# Altium schematic symbol library SparkFun-LED.SCHLIB: 66 symbols
Pins are listed as number, name and electrical type; pins without a type are passive.

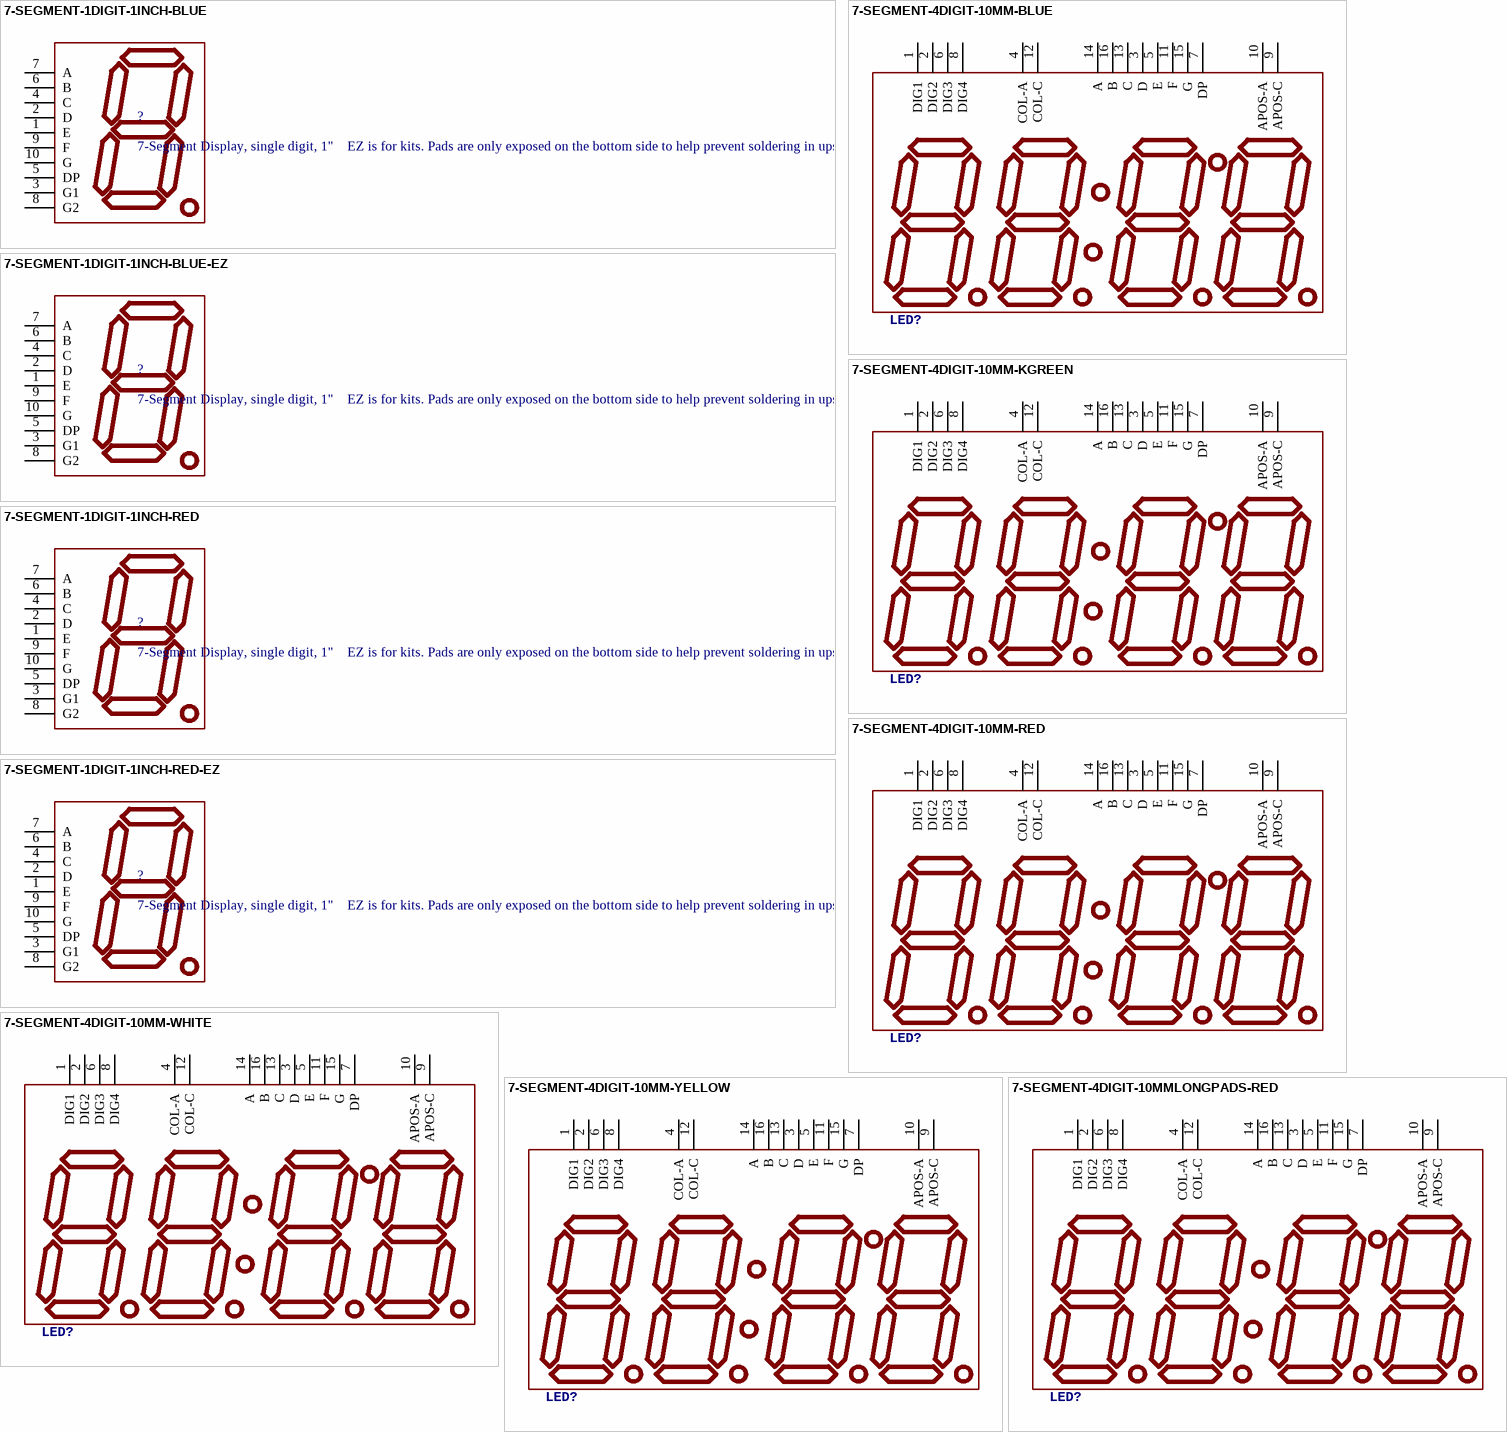
[diagram p0: symbols 7-SEGMENT-1DIGIT-1INCH-BLUE to 7-SEGMENT-4DIGIT-10MMLONGPADS-RED]

## 7-SEGMENT-1DIGIT-1INCH-BLUE
designator ?, comment 7-Segment Display, single digit, 1"    EZ is for kits. Pads are only exposed on the bottom side to help prevent soldering in upside down.    Datasheet (Red) Datasheet (Blue) SparkFun Products  7-Segment Display - LED (Red) (COM-08546)  7-Segment Display - LED (Blue) (COM-09191)
PROD_ID: COMP-09495
footprint 7-SEGMENT-1"PTH
pins: 1 E, 2 D, 3 G1, 4 C, 5 DP, 6 B, 7 A, 8 G2, 9 F, 10 G

## 7-SEGMENT-1DIGIT-1INCH-BLUE-EZ
designator ?, comment 7-Segment Display, single digit, 1"    EZ is for kits. Pads are only exposed on the bottom side to help prevent soldering in upside down.    Datasheet (Red) Datasheet (Blue) SparkFun Products  7-Segment Display - LED (Red) (COM-08546)  7-Segment Display - LED (Blue) (COM-09191)
PROD_ID: COMP-09495
footprint 7-SEGMENT-1"PTH-EZ
pins: 1 E, 2 D, 3 G1, 4 C, 5 DP, 6 B, 7 A, 8 G2, 9 F, 10 G

## 7-SEGMENT-1DIGIT-1INCH-RED
designator ?, comment 7-Segment Display, single digit, 1"    EZ is for kits. Pads are only exposed on the bottom side to help prevent soldering in upside down.    Datasheet (Red) Datasheet (Blue) SparkFun Products  7-Segment Display - LED (Red) (COM-08546)  7-Segment Display - LED (Blue) (COM-09191)
PROD_ID: COMP-08615
footprint 7-SEGMENT-1"PTH
pins: 1 E, 2 D, 3 G1, 4 C, 5 DP, 6 B, 7 A, 8 G2, 9 F, 10 G

## 7-SEGMENT-1DIGIT-1INCH-RED-EZ
designator ?, comment 7-Segment Display, single digit, 1"    EZ is for kits. Pads are only exposed on the bottom side to help prevent soldering in upside down.    Datasheet (Red) Datasheet (Blue) SparkFun Products  7-Segment Display - LED (Red) (COM-08546)  7-Segment Display - LED (Blue) (COM-09191)
PROD_ID: COMP-08615
footprint 7-SEGMENT-1"PTH-EZ
pins: 1 E, 2 D, 3 G1, 4 C, 5 DP, 6 B, 7 A, 8 G2, 9 F, 10 G

## 7-SEGMENT-4DIGIT-10MM-BLUE
designator LED?, comment 4 Digit 7 Segment Display    This is a part for the 4-Digit 7-segment LEDs from Young Sun.  Different from the Digikey LEDs, all 16 pins are used.  The LONGPADS Variant is used for a test jig, but you may like it because there is more pad to solder to. If you are concerned about routing space, the standard works just fine though. Datasheets:  Red  Yellow  Kelly Green  Blue  White     SparkFun Products  Raw Components  7-Segment Display - 4-Digit (Red) (COM-09483)  7-Segment Display - 4-Digit (Yellow) (COM-09480)  7-Segment Display - 4-Digit (Kelly Green) (COM-09482)  7-Segment Display - 4-Digit (Blue) (COM-09481)  7-Segment Display - 4-Digit (White) ( COM-10931)  Serial Controlled  SparkFun 7-Segment Serial Display - Red (COM-11441)  SparkFun 7-Segment Serial Display - Yellow (COM-11443)  SparkFun 7-Segment Serial Display - Kelly Green (COM-11440)  SparkFun 7-Segment Serial Display - Blue (COM-11442)  SparkFun 7-Segment Serial Display - White (COM-11629)  Other  SparkFun BigTime Watch Kit (KIT-11734)
PROD_ID: COMP-09664
footprint 7-SEGMENT-4DIGIT-YOUNGSUN
pins: 1 DIG1, 2 DIG2, 3 D, 4 COL-A, 5 E, 6 DIG3, 7 DP, 8 DIG4, 9 APOS-C, 10 APOS-A, 11 F, 12 COL-C, 13 C, 14 A, 15 G, 16 B

## 7-SEGMENT-4DIGIT-10MM-KGREEN
designator LED?, comment 4 Digit 7 Segment Display    This is a part for the 4-Digit 7-segment LEDs from Young Sun.  Different from the Digikey LEDs, all 16 pins are used.  The LONGPADS Variant is used for a test jig, but you may like it because there is more pad to solder to. If you are concerned about routing space, the standard works just fine though. Datasheets:  Red  Yellow  Kelly Green  Blue  White     SparkFun Products  Raw Components  7-Segment Display - 4-Digit (Red) (COM-09483)  7-Segment Display - 4-Digit (Yellow) (COM-09480)  7-Segment Display - 4-Digit (Kelly Green) (COM-09482)  7-Segment Display - 4-Digit (Blue) (COM-09481)  7-Segment Display - 4-Digit (White) ( COM-10931)  Serial Controlled  SparkFun 7-Segment Serial Display - Red (COM-11441)  SparkFun 7-Segment Serial Display - Yellow (COM-11443)  SparkFun 7-Segment Serial Display - Kelly Green (COM-11440)  SparkFun 7-Segment Serial Display - Blue (COM-11442)  SparkFun 7-Segment Serial Display - White (COM-11629)  Other  SparkFun BigTime Watch Kit (KIT-11734)
PROD_ID: COMP-09665
footprint 7-SEGMENT-4DIGIT-YOUNGSUN
pins: 1 DIG1, 2 DIG2, 3 D, 4 COL-A, 5 E, 6 DIG3, 7 DP, 8 DIG4, 9 APOS-C, 10 APOS-A, 11 F, 12 COL-C, 13 C, 14 A, 15 G, 16 B

## 7-SEGMENT-4DIGIT-10MM-RED
designator LED?, comment 4 Digit 7 Segment Display    This is a part for the 4-Digit 7-segment LEDs from Young Sun.  Different from the Digikey LEDs, all 16 pins are used.  The LONGPADS Variant is used for a test jig, but you may like it because there is more pad to solder to. If you are concerned about routing space, the standard works just fine though. Datasheets:  Red  Yellow  Kelly Green  Blue  White     SparkFun Products  Raw Components  7-Segment Display - 4-Digit (Red) (COM-09483)  7-Segment Display - 4-Digit (Yellow) (COM-09480)  7-Segment Display - 4-Digit (Kelly Green) (COM-09482)  7-Segment Display - 4-Digit (Blue) (COM-09481)  7-Segment Display - 4-Digit (White) ( COM-10931)  Serial Controlled  SparkFun 7-Segment Serial Display - Red (COM-11441)  SparkFun 7-Segment Serial Display - Yellow (COM-11443)  SparkFun 7-Segment Serial Display - Kelly Green (COM-11440)  SparkFun 7-Segment Serial Display - Blue (COM-11442)  SparkFun 7-Segment Serial Display - White (COM-11629)  Other  SparkFun BigTime Watch Kit (KIT-11734)
PROD_ID: COMP-09493
footprint 7-SEGMENT-4DIGIT-YOUNGSUN
pins: 1 DIG1, 2 DIG2, 3 D, 4 COL-A, 5 E, 6 DIG3, 7 DP, 8 DIG4, 9 APOS-C, 10 APOS-A, 11 F, 12 COL-C, 13 C, 14 A, 15 G, 16 B

## 7-SEGMENT-4DIGIT-10MM-WHITE
designator LED?, comment 4 Digit 7 Segment Display    This is a part for the 4-Digit 7-segment LEDs from Young Sun.  Different from the Digikey LEDs, all 16 pins are used.  The LONGPADS Variant is used for a test jig, but you may like it because there is more pad to solder to. If you are concerned about routing space, the standard works just fine though. Datasheets:  Red  Yellow  Kelly Green  Blue  White     SparkFun Products  Raw Components  7-Segment Display - 4-Digit (Red) (COM-09483)  7-Segment Display - 4-Digit (Yellow) (COM-09480)  7-Segment Display - 4-Digit (Kelly Green) (COM-09482)  7-Segment Display - 4-Digit (Blue) (COM-09481)  7-Segment Display - 4-Digit (White) ( COM-10931)  Serial Controlled  SparkFun 7-Segment Serial Display - Red (COM-11441)  SparkFun 7-Segment Serial Display - Yellow (COM-11443)  SparkFun 7-Segment Serial Display - Kelly Green (COM-11440)  SparkFun 7-Segment Serial Display - Blue (COM-11442)  SparkFun 7-Segment Serial Display - White (COM-11629)  Other  SparkFun BigTime Watch Kit (KIT-11734)
PROD_ID: COMP-11430
footprint 7-SEGMENT-4DIGIT-YOUNGSUN
pins: 1 DIG1, 2 DIG2, 3 D, 4 COL-A, 5 E, 6 DIG3, 7 DP, 8 DIG4, 9 APOS-C, 10 APOS-A, 11 F, 12 COL-C, 13 C, 14 A, 15 G, 16 B

## 7-SEGMENT-4DIGIT-10MM-YELLOW
designator LED?, comment 4 Digit 7 Segment Display    This is a part for the 4-Digit 7-segment LEDs from Young Sun.  Different from the Digikey LEDs, all 16 pins are used.  The LONGPADS Variant is used for a test jig, but you may like it because there is more pad to solder to. If you are concerned about routing space, the standard works just fine though. Datasheets:  Red  Yellow  Kelly Green  Blue  White     SparkFun Products  Raw Components  7-Segment Display - 4-Digit (Red) (COM-09483)  7-Segment Display - 4-Digit (Yellow) (COM-09480)  7-Segment Display - 4-Digit (Kelly Green) (COM-09482)  7-Segment Display - 4-Digit (Blue) (COM-09481)  7-Segment Display - 4-Digit (White) ( COM-10931)  Serial Controlled  SparkFun 7-Segment Serial Display - Red (COM-11441)  SparkFun 7-Segment Serial Display - Yellow (COM-11443)  SparkFun 7-Segment Serial Display - Kelly Green (COM-11440)  SparkFun 7-Segment Serial Display - Blue (COM-11442)  SparkFun 7-Segment Serial Display - White (COM-11629)  Other  SparkFun BigTime Watch Kit (KIT-11734)
PROD_ID: COMP-09654
footprint 7-SEGMENT-4DIGIT-YOUNGSUN
pins: 1 DIG1, 2 DIG2, 3 D, 4 COL-A, 5 E, 6 DIG3, 7 DP, 8 DIG4, 9 APOS-C, 10 APOS-A, 11 F, 12 COL-C, 13 C, 14 A, 15 G, 16 B

## 7-SEGMENT-4DIGIT-10MMLONGPADS-RED
designator LED?, comment 4 Digit 7 Segment Display    This is a part for the 4-Digit 7-segment LEDs from Young Sun.  Different from the Digikey LEDs, all 16 pins are used.  The LONGPADS Variant is used for a test jig, but you may like it because there is more pad to solder to. If you are concerned about routing space, the standard works just fine though. Datasheets:  Red  Yellow  Kelly Green  Blue  White     SparkFun Products  Raw Components  7-Segment Display - 4-Digit (Red) (COM-09483)  7-Segment Display - 4-Digit (Yellow) (COM-09480)  7-Segment Display - 4-Digit (Kelly Green) (COM-09482)  7-Segment Display - 4-Digit (Blue) (COM-09481)  7-Segment Display - 4-Digit (White) ( COM-10931)  Serial Controlled  SparkFun 7-Segment Serial Display - Red (COM-11441)  SparkFun 7-Segment Serial Display - Yellow (COM-11443)  SparkFun 7-Segment Serial Display - Kelly Green (COM-11440)  SparkFun 7-Segment Serial Display - Blue (COM-11442)  SparkFun 7-Segment Serial Display - White (COM-11629)  Other  SparkFun BigTime Watch Kit (KIT-11734)
PROD_ID: COMP-09493
footprint 7-SEGMENT-4DIGIT-YOUNGSUN-LONGPADS
pins: 1 DIG1, 2 DIG2, 3 D, 4 COL-A, 5 E, 6 DIG3, 7 DP, 8 DIG4, 9 APOS-C, 10 APOS-A, 11 F, 12 COL-C, 13 C, 14 A, 15 G, 16 B

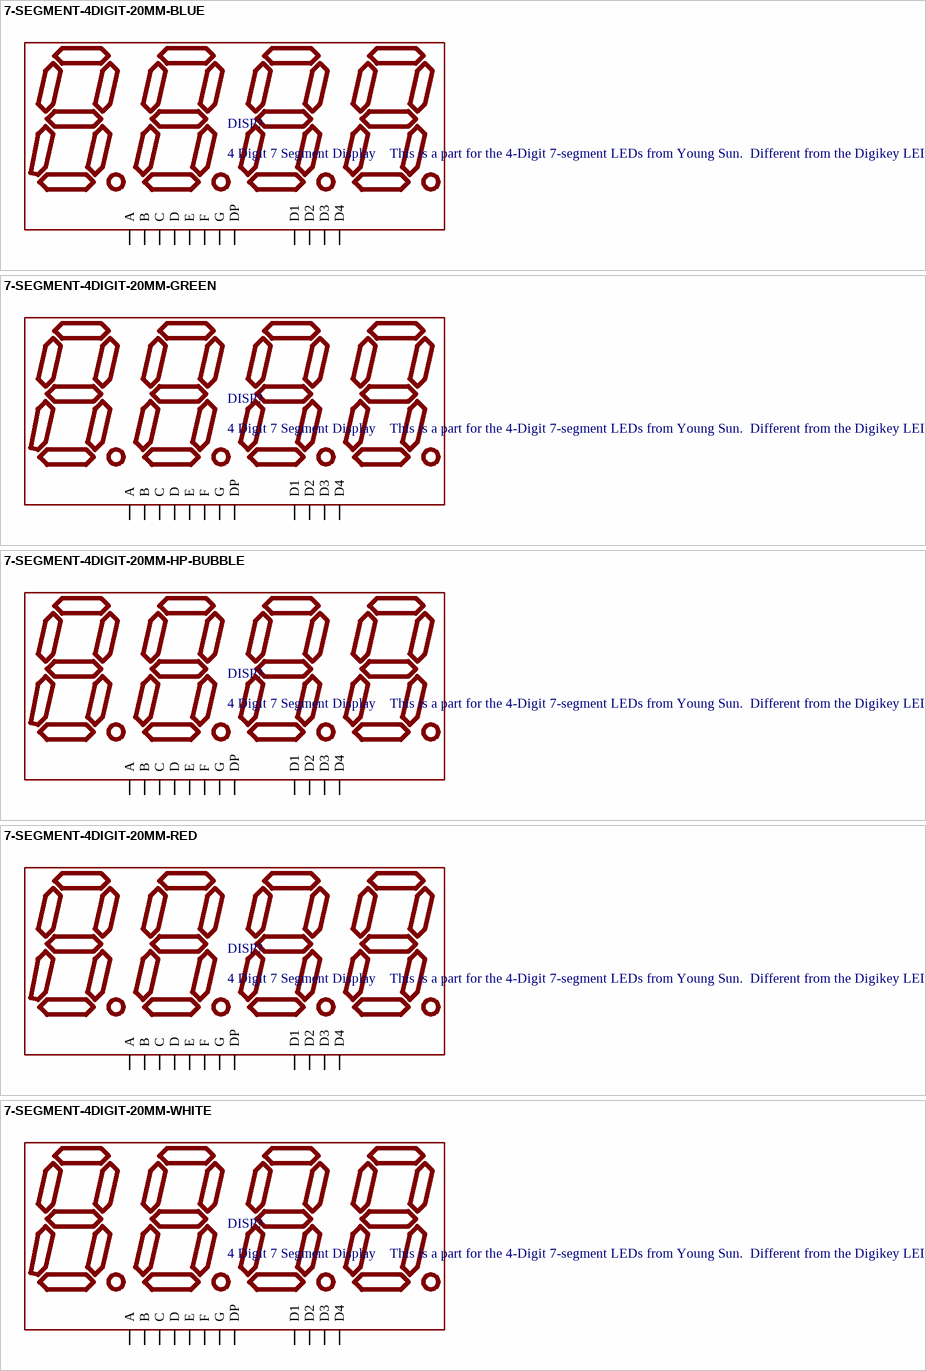
[diagram p1: symbols 7-SEGMENT-4DIGIT-20MM-BLUE to 7-SEGMENT-4DIGIT-20MM-WHITE]

## 7-SEGMENT-4DIGIT-20MM-BLUE
designator DISP?, comment 4 Digit 7 Segment Display    This is a part for the 4-Digit 7-segment LEDs from Young Sun.  Different from the Digikey LEDs, all 16 pins are used.  The LONGPADS Variant is used for a test jig, but you may like it because there is more pad to solder to. If you are concerned about routing space, the standard works just fine though. Datasheets:  Red  Yellow  Green  Blue  White     SparkFun Products  Raw Components  7-Segment Display - 20mm (Red) (COM-11405)  7-Segment Display - 20mm (Yellow) (COM-11406)  7-Segment Display - 20mm (Green) (COM-11407)  7-Segment Display - 20mm (Blue) (COM-11408)  7-Segment Display - 20mm (White) (COM-11409)  Serial Controlled  SparkFun OpenSegment Serial Display - 20mm (Red) (COM-11644)  SparkFun OpenSegment Serial Display - 20mm (Yellow) (COM-11645)  SparkFun OpenSegment Serial Display - 20mm (Green) (COM-11646)  SparkFun OpenSegment Serial Display - 20mm (Blue) (COM-11647)  SparkFun OpenSegment Serial Display - 20mm (White) (COM-11648)  Other  SparkFun OpenSegment Shield (DEV-13190)
PROD_ID: COMP-11446
footprint 7-SEGMENT-4DIGIT-20MM
pins: 1 E, 2 D, 3 DP, 4 C, 5 G, 6 D4, 7 B, 8 D3, 9 D2, 10 F, 11 A, 12 D1

## 7-SEGMENT-4DIGIT-20MM-GREEN
designator DISP?, comment 4 Digit 7 Segment Display    This is a part for the 4-Digit 7-segment LEDs from Young Sun.  Different from the Digikey LEDs, all 16 pins are used.  The LONGPADS Variant is used for a test jig, but you may like it because there is more pad to solder to. If you are concerned about routing space, the standard works just fine though. Datasheets:  Red  Yellow  Green  Blue  White     SparkFun Products  Raw Components  7-Segment Display - 20mm (Red) (COM-11405)  7-Segment Display - 20mm (Yellow) (COM-11406)  7-Segment Display - 20mm (Green) (COM-11407)  7-Segment Display - 20mm (Blue) (COM-11408)  7-Segment Display - 20mm (White) (COM-11409)  Serial Controlled  SparkFun OpenSegment Serial Display - 20mm (Red) (COM-11644)  SparkFun OpenSegment Serial Display - 20mm (Yellow) (COM-11645)  SparkFun OpenSegment Serial Display - 20mm (Green) (COM-11646)  SparkFun OpenSegment Serial Display - 20mm (Blue) (COM-11647)  SparkFun OpenSegment Serial Display - 20mm (White) (COM-11648)  Other  SparkFun OpenSegment Shield (DEV-13190)
PROD_ID: COMP-11447
footprint 7-SEGMENT-4DIGIT-20MM
pins: 1 E, 2 D, 3 DP, 4 C, 5 G, 6 D4, 7 B, 8 D3, 9 D2, 10 F, 11 A, 12 D1

## 7-SEGMENT-4DIGIT-20MM-HP-BUBBLE
designator DISP?, comment 4 Digit 7 Segment Display    This is a part for the 4-Digit 7-segment LEDs from Young Sun.  Different from the Digikey LEDs, all 16 pins are used.  The LONGPADS Variant is used for a test jig, but you may like it because there is more pad to solder to. If you are concerned about routing space, the standard works just fine though. Datasheets:  Red  Yellow  Green  Blue  White     SparkFun Products  Raw Components  7-Segment Display - 20mm (Red) (COM-11405)  7-Segment Display - 20mm (Yellow) (COM-11406)  7-Segment Display - 20mm (Green) (COM-11407)  7-Segment Display - 20mm (Blue) (COM-11408)  7-Segment Display - 20mm (White) (COM-11409)  Serial Controlled  SparkFun OpenSegment Serial Display - 20mm (Red) (COM-11644)  SparkFun OpenSegment Serial Display - 20mm (Yellow) (COM-11645)  SparkFun OpenSegment Serial Display - 20mm (Green) (COM-11646)  SparkFun OpenSegment Serial Display - 20mm (Blue) (COM-11647)  SparkFun OpenSegment Serial Display - 20mm (White) (COM-11648)  Other  SparkFun OpenSegment Shield (DEV-13190)
STOREFRONT: COM-12710
footprint DIP12-HP-BUBBLE
pins: 1 D1, 2 E, 3 C, 4 D3, 5 DP, 6 D4, 7 G, 8 D, 9 F, 10 D2, 11 B, 12 A

## 7-SEGMENT-4DIGIT-20MM-RED
designator DISP?, comment 4 Digit 7 Segment Display    This is a part for the 4-Digit 7-segment LEDs from Young Sun.  Different from the Digikey LEDs, all 16 pins are used.  The LONGPADS Variant is used for a test jig, but you may like it because there is more pad to solder to. If you are concerned about routing space, the standard works just fine though. Datasheets:  Red  Yellow  Green  Blue  White     SparkFun Products  Raw Components  7-Segment Display - 20mm (Red) (COM-11405)  7-Segment Display - 20mm (Yellow) (COM-11406)  7-Segment Display - 20mm (Green) (COM-11407)  7-Segment Display - 20mm (Blue) (COM-11408)  7-Segment Display - 20mm (White) (COM-11409)  Serial Controlled  SparkFun OpenSegment Serial Display - 20mm (Red) (COM-11644)  SparkFun OpenSegment Serial Display - 20mm (Yellow) (COM-11645)  SparkFun OpenSegment Serial Display - 20mm (Green) (COM-11646)  SparkFun OpenSegment Serial Display - 20mm (Blue) (COM-11647)  SparkFun OpenSegment Serial Display - 20mm (White) (COM-11648)  Other  SparkFun OpenSegment Shield (DEV-13190)
PROD_ID: COMP-11449
footprint 7-SEGMENT-4DIGIT-20MM
pins: 1 E, 2 D, 3 DP, 4 C, 5 G, 6 D4, 7 B, 8 D3, 9 D2, 10 F, 11 A, 12 D1

## 7-SEGMENT-4DIGIT-20MM-WHITE
designator DISP?, comment 4 Digit 7 Segment Display    This is a part for the 4-Digit 7-segment LEDs from Young Sun.  Different from the Digikey LEDs, all 16 pins are used.  The LONGPADS Variant is used for a test jig, but you may like it because there is more pad to solder to. If you are concerned about routing space, the standard works just fine though. Datasheets:  Red  Yellow  Green  Blue  White     SparkFun Products  Raw Components  7-Segment Display - 20mm (Red) (COM-11405)  7-Segment Display - 20mm (Yellow) (COM-11406)  7-Segment Display - 20mm (Green) (COM-11407)  7-Segment Display - 20mm (Blue) (COM-11408)  7-Segment Display - 20mm (White) (COM-11409)  Serial Controlled  SparkFun OpenSegment Serial Display - 20mm (Red) (COM-11644)  SparkFun OpenSegment Serial Display - 20mm (Yellow) (COM-11645)  SparkFun OpenSegment Serial Display - 20mm (Green) (COM-11646)  SparkFun OpenSegment Serial Display - 20mm (Blue) (COM-11647)  SparkFun OpenSegment Serial Display - 20mm (White) (COM-11648)  Other  SparkFun OpenSegment Shield (DEV-13190)
PROD_ID: COMP-11445
footprint 7-SEGMENT-4DIGIT-20MM
pins: 1 E, 2 D, 3 DP, 4 C, 5 G, 6 D4, 7 B, 8 D3, 9 D2, 10 F, 11 A, 12 D1

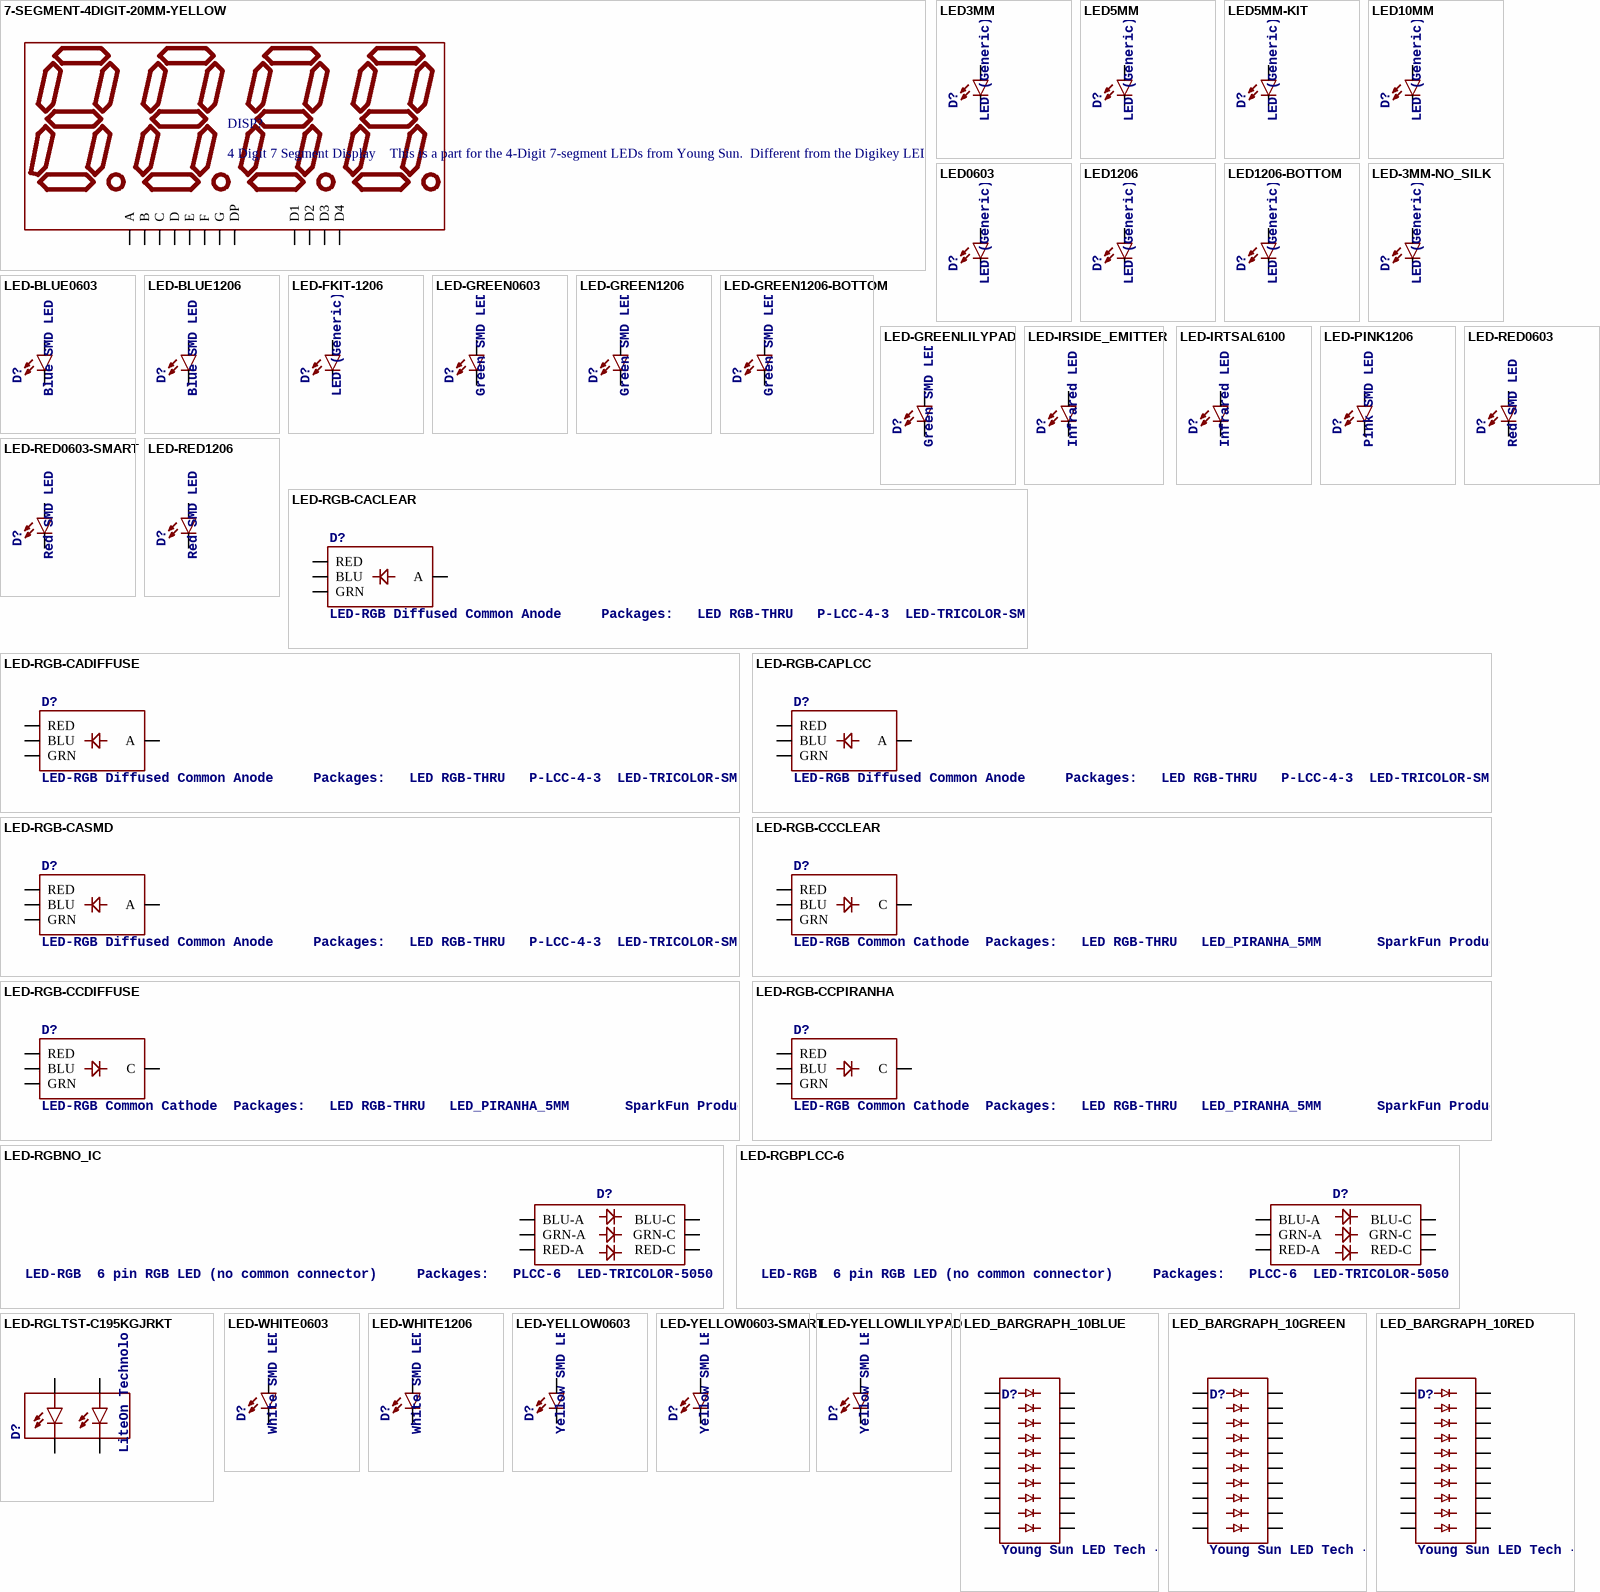
[diagram p2: symbols 7-SEGMENT-4DIGIT-20MM-YELLOW to LED_BARGRAPH_10RED]

## 7-SEGMENT-4DIGIT-20MM-YELLOW
designator DISP?, comment 4 Digit 7 Segment Display    This is a part for the 4-Digit 7-segment LEDs from Young Sun.  Different from the Digikey LEDs, all 16 pins are used.  The LONGPADS Variant is used for a test jig, but you may like it because there is more pad to solder to. If you are concerned about routing space, the standard works just fine though. Datasheets:  Red  Yellow  Green  Blue  White     SparkFun Products  Raw Components  7-Segment Display - 20mm (Red) (COM-11405)  7-Segment Display - 20mm (Yellow) (COM-11406)  7-Segment Display - 20mm (Green) (COM-11407)  7-Segment Display - 20mm (Blue) (COM-11408)  7-Segment Display - 20mm (White) (COM-11409)  Serial Controlled  SparkFun OpenSegment Serial Display - 20mm (Red) (COM-11644)  SparkFun OpenSegment Serial Display - 20mm (Yellow) (COM-11645)  SparkFun OpenSegment Serial Display - 20mm (Green) (COM-11646)  SparkFun OpenSegment Serial Display - 20mm (Blue) (COM-11647)  SparkFun OpenSegment Serial Display - 20mm (White) (COM-11648)  Other  SparkFun OpenSegment Shield (DEV-13190)
PROD_ID: COMP-11448
footprint 7-SEGMENT-4DIGIT-20MM
pins: 1 E, 2 D, 3 DP, 4 C, 5 G, 6 D4, 7 B, 8 D3, 9 D2, 10 F, 11 A, 12 D1

## LED3MM
designator D?, comment LED (Generic)   Standard schematic elements and footprints for 5mm, 3mm, 1206, and 0603 sized LEDs. Generic LEDs with no color specified.
PROD_ID: DIO-08794
footprint LED_3MM
pins: A, K C

## LED5MM
designator D?, comment LED (Generic)   Standard schematic elements and footprints for 5mm, 3mm, 1206, and 0603 sized LEDs. Generic LEDs with no color specified.
footprint LED_5MM
pins: A, K C

## LED5MM-KIT
designator D?, comment LED (Generic)   Standard schematic elements and footprints for 5mm, 3mm, 1206, and 0603 sized LEDs. Generic LEDs with no color specified.
footprint LED_5MM-KIT
pins: A, K C

## LED10MM
designator D?, comment LED (Generic)   Standard schematic elements and footprints for 5mm, 3mm, 1206, and 0603 sized LEDs. Generic LEDs with no color specified.
footprint LED_10MM
pins: A, C

## LED0603
designator D?, comment LED (Generic)   Standard schematic elements and footprints for 5mm, 3mm, 1206, and 0603 sized LEDs. Generic LEDs with no color specified.
footprint LED-0603
pins: A, C

## LED1206
designator D?, comment LED (Generic)   Standard schematic elements and footprints for 5mm, 3mm, 1206, and 0603 sized LEDs. Generic LEDs with no color specified.
footprint LED-1206
pins: A, C

## LED1206-BOTTOM
designator D?, comment LED (Generic)   Standard schematic elements and footprints for 5mm, 3mm, 1206, and 0603 sized LEDs. Generic LEDs with no color specified.
footprint LED-1206-BOTTOM
pins: A, C

## LED-3MM-NO_SILK
designator D?, comment LED (Generic)   Standard schematic elements and footprints for 5mm, 3mm, 1206, and 0603 sized LEDs. Generic LEDs with no color specified.
footprint LED_3MM-NS
pins: A, K C

## LED-BLUE0603
designator D?, comment Blue SMD LED    Used in manufacturing of various products at SparkFun   Packages: 0603 - SMD 0603 package [Product Link]  1206 - SMD1206  package [Product Link]    SparkFun Products: ESP8266 Thing-Dev Board  RedBoard
PROD_ID: DIO-08575
footprint LED-0603
pins: A, C

## LED-BLUE1206
designator D?, comment Blue SMD LED    Used in manufacturing of various products at SparkFun   Packages: 0603 - SMD 0603 package [Product Link]  1206 - SMD1206  package [Product Link]    SparkFun Products: ESP8266 Thing-Dev Board  RedBoard
PROD_ID: DIO-09911
footprint LED-1206
pins: A, C

## LED-FKIT-1206
designator D?, comment LED (Generic)   Standard schematic elements and footprints for 5mm, 3mm, 1206, and 0603 sized LEDs. Generic LEDs with no color specified.
footprint FKIT-LED-1206
pins: A, C

## LED-GREEN0603
designator D?, comment Green SMD LED    Used in manufacturing of various products at SparkFun   Packages: 0603 - SMD 0603 package [Product Link]  LilyPad 1206 - SMD1206 LilyPad package [Product Link]   1206 - SMD1206  package   1206 Bottom Mount -SMD 1206 Bottom Mount    SparkFun Products: Pro Mini 328 -5V  RedBoard  MP3 Trigger  Makey Makey
PROD_ID: DIO-00821
footprint LED-0603
pins: A, C

## LED-GREEN1206
designator D?, comment Green SMD LED    Used in manufacturing of various products at SparkFun   Packages: 0603 - SMD 0603 package [Product Link]  LilyPad 1206 - SMD1206 LilyPad package [Product Link]   1206 - SMD1206  package   1206 Bottom Mount -SMD 1206 Bottom Mount    SparkFun Products: Pro Mini 328 -5V  RedBoard  MP3 Trigger  Makey Makey
PROD_ID: DIO-00862
footprint LED-1206
pins: A, C

## LED-GREEN1206-BOTTOM
designator D?, comment Green SMD LED    Used in manufacturing of various products at SparkFun   Packages: 0603 - SMD 0603 package [Product Link]  LilyPad 1206 - SMD1206 LilyPad package [Product Link]   1206 - SMD1206  package   1206 Bottom Mount -SMD 1206 Bottom Mount    SparkFun Products: Pro Mini 328 -5V  RedBoard  MP3 Trigger  Makey Makey
PROD_ID: DIO-11076
footprint LED-1206-BOTTOM
pins: A, C

## LED-GREENLILYPAD
designator D?, comment Green SMD LED    Used in manufacturing of various products at SparkFun   Packages: 0603 - SMD 0603 package [Product Link]  LilyPad 1206 - SMD1206 LilyPad package [Product Link]   1206 - SMD1206  package   1206 Bottom Mount -SMD 1206 Bottom Mount    SparkFun Products: Pro Mini 328 -5V  RedBoard  MP3 Trigger  Makey Makey
PROD_ID: DIO-09910
footprint LED-1206
pins: A, C

## LED-IRSIDE_EMITTER
designator D?, comment Infrared LED (IR)   Wavelength:  940nm     Packages:  TSAL6100    LTE302 - Side firing. Check SparkFun-Sensors.lbr for the receiver    SparkFun Products: ZX Distance and Gesture Sensor  Infrared Emitters and Detectors
PROD_ID: DIO-10904; SF_ID: SEN-00241
footprint LTE-302
pins: A, C

## LED-IRTSAL6100
designator D?, comment Infrared LED (IR)   Wavelength:  940nm     Packages:  TSAL6100    LTE302 - Side firing. Check SparkFun-Sensors.lbr for the receiver    SparkFun Products: ZX Distance and Gesture Sensor  Infrared Emitters and Detectors
PROD_ID: DIO-12058
footprint LED_5MM
pins: A, K C

## LED-PINK1206
designator D?, comment Pink SMD LED    Used in manufacturing of various products at SparkFun   Packages: 0603 - SMD 0603 package [Product Link]    SparkFun Products: LilyPad LED Pink
PROD_ID: DIO-10415
footprint LED-1206
pins: A, C

## LED-RED0603
designator D?, comment Red SMD LED    Used in manufacturing of most products at SparkFun   Packages: 0603 - SMD 0603 package [Product Link]  0603 SMART - SMD 0603 SMART package ( more efficient and expensive)[Product Link]   1206 - SMD1206  package [Product Link]    SparkFun Products: Pro Mini 328 -5V  RedBoard  IOIO-OTG
PROD_ID: DIO-00819
footprint LED-0603
pins: A, C

## LED-RED0603-SMART
designator D?, comment Red SMD LED    Used in manufacturing of most products at SparkFun   Packages: 0603 - SMD 0603 package [Product Link]  0603 SMART - SMD 0603 SMART package ( more efficient and expensive)[Product Link]   1206 - SMD1206  package [Product Link]    SparkFun Products: Pro Mini 328 -5V  RedBoard  IOIO-OTG
PROD_ID: DIO-11154
footprint LED-0603
pins: A, C

## LED-RED1206
designator D?, comment Red SMD LED    Used in manufacturing of most products at SparkFun   Packages: 0603 - SMD 0603 package [Product Link]  0603 SMART - SMD 0603 SMART package ( more efficient and expensive)[Product Link]   1206 - SMD1206  package [Product Link]    SparkFun Products: Pro Mini 328 -5V  RedBoard  IOIO-OTG
PROD_ID: DIO-09912
footprint LED-1206
pins: A, C

## LED-RGB-CACLEAR
designator D?, comment LED-RGB Diffused Common Anode     Packages:   LED RGB-THRU   P-LCC-4-3  LED-TRICOLOR-SMD    SparkFun Products: RGB Diffused Common Anode- Diffuse  RGB Diffused Common Anode - Clear  Qduino Mini  Triple Output LED RGB - SMD
PROD_ID: DIO-10631
footprint LED-RGB-THRU
pins: 1 RED, 2 A, 3 GRN, 4 BLU

## LED-RGB-CADIFFUSE
designator D?, comment LED-RGB Diffused Common Anode     Packages:   LED RGB-THRU   P-LCC-4-3  LED-TRICOLOR-SMD    SparkFun Products: RGB Diffused Common Anode- Diffuse  RGB Diffused Common Anode - Clear  Qduino Mini  Triple Output LED RGB - SMD
PROD_ID: DIO-10632
footprint LED-RGB-THRU
pins: 1 RED, 2 A, 3 GRN, 4 BLU

## LED-RGB-CAPLCC
designator D?, comment LED-RGB Diffused Common Anode     Packages:   LED RGB-THRU   P-LCC-4-3  LED-TRICOLOR-SMD    SparkFun Products: RGB Diffused Common Anode- Diffuse  RGB Diffused Common Anode - Clear  Qduino Mini  Triple Output LED RGB - SMD
PROD_ID: DIO-12986
footprint P-LCC-4-3
pins: 1 RED, 2 GRN, 3 BLU, 4 A

## LED-RGB-CASMD
designator D?, comment LED-RGB Diffused Common Anode     Packages:   LED RGB-THRU   P-LCC-4-3  LED-TRICOLOR-SMD    SparkFun Products: RGB Diffused Common Anode- Diffuse  RGB Diffused Common Anode - Clear  Qduino Mini  Triple Output LED RGB - SMD
PROD_ID: DIO-08324
footprint LED-TRICOLOR-SMD
pins: A, B BLU, G GRN, R RED

## LED-RGB-CCCLEAR
designator D?, comment LED-RGB Common Cathode  Packages:   LED RGB-THRU   LED_PIRANHA_5MM       SparkFun Products: RGB Diffused Common Cathode- Diffuse  RGB Diffused Common Cathode - Clear  LED-RGB 5mm Square (Piranha)
PROD_ID: DIO-08418
footprint LED-RGB-THRU
pins: 1 RED, 2 C, 3 GRN, 4 BLU

## LED-RGB-CCDIFFUSE
designator D?, comment LED-RGB Common Cathode  Packages:   LED RGB-THRU   LED_PIRANHA_5MM       SparkFun Products: RGB Diffused Common Cathode- Diffuse  RGB Diffused Common Cathode - Clear  LED-RGB 5mm Square (Piranha)
PROD_ID: DIO-09434
footprint LED-RGB-THRU
pins: 1 RED, 2 C, 3 GRN, 4 BLU

## LED-RGB-CCPIRANHA
designator D?, comment LED-RGB Common Cathode  Packages:   LED RGB-THRU   LED_PIRANHA_5MM       SparkFun Products: RGB Diffused Common Cathode- Diffuse  RGB Diffused Common Cathode - Clear  LED-RGB 5mm Square (Piranha)
SF_ID: COM-11679
footprint LED_PIRANHA_5MM
pins: - C, B BLU, G GRN, R RED

## LED-RGBNO_IC
designator D?, comment LED-RGB  6 pin RGB LED (no common connector)     Packages:   PLCC-6  LED-TRICOLOR-5050 - No built-in IC    SparkFun Products: Digital Sandbox   LED- SMD RGB
PROD_ID: DIO-10298
footprint LED-TRICOLOR-5050
pins: 1 GRN-A, 2 RED-A, 3 BLU-A, 4 BLU-C, 5 RED-C, 6 GRN-C

## LED-RGBPLCC-6
designator D?, comment LED-RGB  6 pin RGB LED (no common connector)     Packages:   PLCC-6  LED-TRICOLOR-5050 - No built-in IC    SparkFun Products: Digital Sandbox   LED- SMD RGB
PROD_ID: DIO-12113
footprint PLCC-6-LED
pins: AB BLU-A, AG GRN-A, AR RED-A, CB BLU-C, CG GRN-C, CR RED-C

## LED-RGLTST-C195KGJRKT
designator D?, comment LiteOn Technology Corporation LTST-C195KGJRKT - LED GREEN/RED CLEAR 0606 SMD  Color: Red/Green  Lens Transparency:  Clear  Lens Style/Size: Rectangle with Flat top, 1.10 x 1.5 mm  mC Rating45mcd Red, 35 mcd Green  Current: 20mA Red, 20mA Green  Forward Voltage:  2V Red, 2V Green  Packages: 0606    SparkFun Products:  Electric Imp imp002 Breakout
PROD_ID: DIO-12140
footprint LTST-C195KGJRKT
pins: P$1 GA, P$2 RA, P$3 GC, P$4 RC

## LED-WHITE0603
designator D?, comment White SMD LED Used in manufacturing several products at SparkFun.    Packages:  0603 - Bright White SMD 0603  package[Product Link]  1206 - Bright White SMD1206  package [Product Link]    SparkFun Products: Blackberry Trackballer Breakout  Digital SandBox
PROD_ID: DIO-09004
footprint LED-0603
pins: A, C

## LED-WHITE1206
designator D?, comment White SMD LED Used in manufacturing several products at SparkFun.    Packages:  0603 - Bright White SMD 0603  package[Product Link]  1206 - Bright White SMD1206  package [Product Link]    SparkFun Products: Blackberry Trackballer Breakout  Digital SandBox
PROD_ID: DIO-09955
footprint LED-1206
pins: A, C

## LED-YELLOW0603
designator D?, comment Yellow SMD LED Used in manufacturing several products at SparkFun.    Packages:  0603 -  SMD 0603  package  0603 -SMART - SMART SMD 0603  package (more efficient/more expensive) [Product Link]   LilyPad - SMD1206  package[Product Datasheet]       SparkFun Products: Blynk Board  IOIO-OTG  XBee Explorer Serial
PROD_ID: DIO-09003
footprint LED-0603
pins: A, C

## LED-YELLOW0603-SMART
designator D?, comment Yellow SMD LED Used in manufacturing several products at SparkFun.    Packages:  0603 -  SMD 0603  package  0603 -SMART - SMART SMD 0603  package (more efficient/more expensive) [Product Link]   LilyPad - SMD1206  package[Product Datasheet]       SparkFun Products: Blynk Board  IOIO-OTG  XBee Explorer Serial
PROD_ID: DIO-11230
footprint LED-0603
pins: A, C

## LED-YELLOWLILYPAD
designator D?, comment Yellow SMD LED Used in manufacturing several products at SparkFun.    Packages:  0603 -  SMD 0603  package  0603 -SMART - SMART SMD 0603  package (more efficient/more expensive) [Product Link]   LilyPad - SMD1206  package[Product Datasheet]       SparkFun Products: Blynk Board  IOIO-OTG  XBee Explorer Serial
PROD_ID: DIO-09909
footprint LED-1206
pins: A, C

## LED_BARGRAPH_10BLUE
designator D?, comment Young Sun LED Tech - YSLB-10251G5-10 10-Segment LED Bar Graph    Features: Red Vf = 2.1V, Ifmax = 20mA   Yellow Vf = 2.1V, Ifmax = 20mA   Blue Vf = 3.4V, Ifmax = 20mA   Green Vf = 3.4V, Ifmax = 20mA        SparkFun Products:  Red  Yellow  Green  Blue
PROD_ID: DIO-10613
footprint LED_BARGRAPH_10
pins: 1 A, 2 A1, 3 A2, 4 A3, 5 A4, 6 A5, 7 A6, 8 A7, 9 A8, 10 A9, 11 C9, 12 C8, 13 C7, 14 C6, 15 C5, 16 C4, 17 C3, 18 C2, 19 C1, 20 C

## LED_BARGRAPH_10GREEN
designator D?, comment Young Sun LED Tech - YSLB-10251G5-10 10-Segment LED Bar Graph    Features: Red Vf = 2.1V, Ifmax = 20mA   Yellow Vf = 2.1V, Ifmax = 20mA   Blue Vf = 3.4V, Ifmax = 20mA   Green Vf = 3.4V, Ifmax = 20mA        SparkFun Products:  Red  Yellow  Green  Blue
PROD_ID: DIO-10612
footprint LED_BARGRAPH_10
pins: 1 A, 2 A1, 3 A2, 4 A3, 5 A4, 6 A5, 7 A6, 8 A7, 9 A8, 10 A9, 11 C9, 12 C8, 13 C7, 14 C6, 15 C5, 16 C4, 17 C3, 18 C2, 19 C1, 20 C

## LED_BARGRAPH_10RED
designator D?, comment Young Sun LED Tech - YSLB-10251G5-10 10-Segment LED Bar Graph    Features: Red Vf = 2.1V, Ifmax = 20mA   Yellow Vf = 2.1V, Ifmax = 20mA   Blue Vf = 3.4V, Ifmax = 20mA   Green Vf = 3.4V, Ifmax = 20mA        SparkFun Products:  Red  Yellow  Green  Blue
PROD_ID: DIO-10615
footprint LED_BARGRAPH_10
pins: 1 A, 2 A1, 3 A2, 4 A3, 5 A4, 6 A5, 7 A6, 8 A7, 9 A8, 10 A9, 11 C9, 12 C8, 13 C7, 14 C6, 15 C5, 16 C4, 17 C3, 18 C2, 19 C1, 20 C

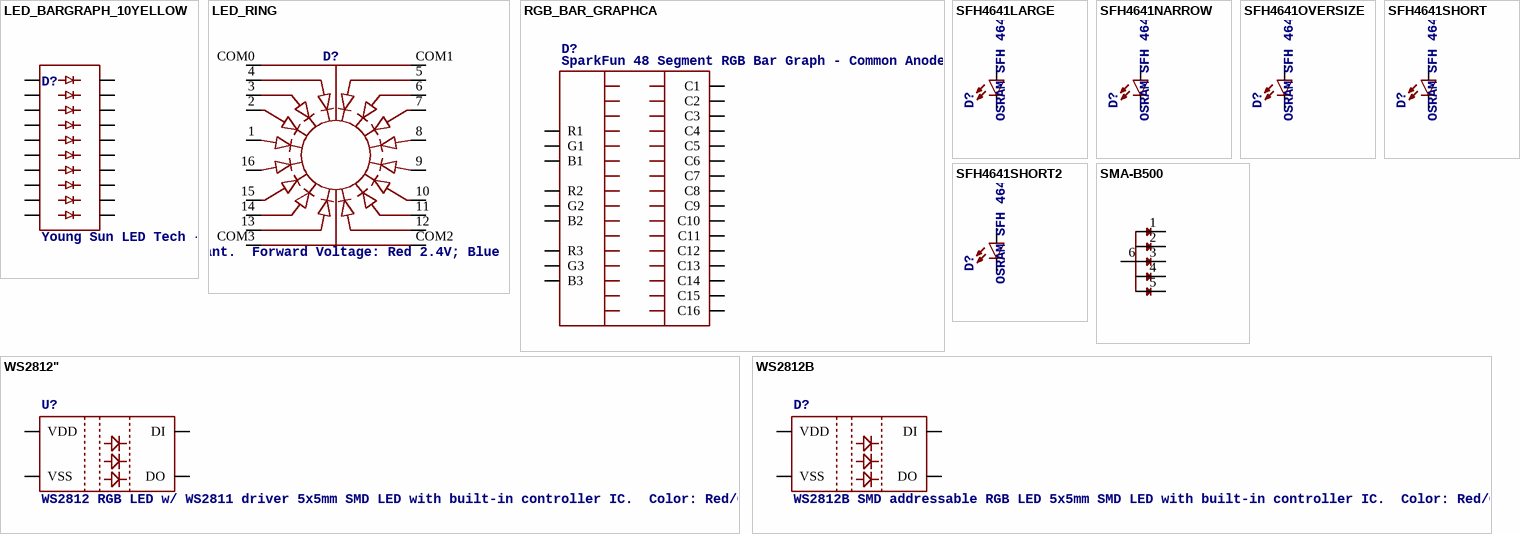
[diagram p3: symbols LED_BARGRAPH_10YELLOW to WS2812B]

## LED_BARGRAPH_10YELLOW
designator D?, comment Young Sun LED Tech - YSLB-10251G5-10 10-Segment LED Bar Graph    Features: Red Vf = 2.1V, Ifmax = 20mA   Yellow Vf = 2.1V, Ifmax = 20mA   Blue Vf = 3.4V, Ifmax = 20mA   Green Vf = 3.4V, Ifmax = 20mA        SparkFun Products:  Red  Yellow  Green  Blue
PROD_ID: DIO-10614
footprint LED_BARGRAPH_10
pins: 1 A, 2 A1, 3 A2, 4 A3, 5 A4, 6 A5, 7 A6, 8 A7, 9 A8, 10 A9, 11 C9, 12 C8, 13 C7, 14 C6, 15 C5, 16 C4, 17 C3, 18 C2, 19 C1, 20 C

## LED_RING
designator D?, comment Top Up Industry Corp 16 LED Ring - LED-CCLA    16 LEDs broken into quarters. 4 anode pins + 1 common ground / quadrant.  Forward Voltage: Red 2.4V; Blue 3.0V  Forward Current: Red 25mA; Blue 30mA  Wavelength:  Red 624nm; Blue 465nm    SparkFun Products:  Blue LED Ring  Red LED Ring
SF_ID: COM-10595
footprint LED_RING
pins: 1, 2, 3, 4, 5, 6, 7, 8, 9, 10, 11, 12, 13, 14, 15, 16, COM0, COM1, COM2, COM3

## RGB_BAR_GRAPHCA
designator D?, comment SparkFun 48 Segment RGB Bar Graph - Common Anode
PROD_ID: COM-13520
footprint RGB_BAR_GRAPH
pins: 1 C1, 2 G3, 3 C3, 4 C4, 5 C6, 6 B2, 7 G1, 8 C10, 9 R1, 10 C13, 11 C14, 12 C16, 13 R3, 14 B3, 15 C15, 16 G2, 17 R2, 18 C12, 19 C11, 20 C9, 21 C8, 22 C7, 23 C5, 24 B1, 25 C2

## SFH4641LARGE
designator D?, comment OSRAM SFH 4641-Z - Infrared Emitters - High Power Infrared 940nm     Wavelength:950nm  Beam Angle:20 degree  Forward Current:70mA  Forward Voltage:1.6V    Variants:  Large:Large pads  Narrow:Narrow pads  Oversize:Oversize pads  Short:Short pads  Short2:Short, wide pads       SparkFun Products:  ZX Distance and Gesture Sensor
PROD_ID: DIO-11994
footprint SFH4641
pins: A, C

## SFH4641NARROW
designator D?, comment OSRAM SFH 4641-Z - Infrared Emitters - High Power Infrared 940nm     Wavelength:950nm  Beam Angle:20 degree  Forward Current:70mA  Forward Voltage:1.6V    Variants:  Large:Large pads  Narrow:Narrow pads  Oversize:Oversize pads  Short:Short pads  Short2:Short, wide pads       SparkFun Products:  ZX Distance and Gesture Sensor
PROD_ID: DIO-11994
footprint SFH4641-NARROW
pins: A, C

## SFH4641OVERSIZE
designator D?, comment OSRAM SFH 4641-Z - Infrared Emitters - High Power Infrared 940nm     Wavelength:950nm  Beam Angle:20 degree  Forward Current:70mA  Forward Voltage:1.6V    Variants:  Large:Large pads  Narrow:Narrow pads  Oversize:Oversize pads  Short:Short pads  Short2:Short, wide pads       SparkFun Products:  ZX Distance and Gesture Sensor
PROD_ID: DIO-11994
footprint SFH4641-OVERSIZE
pins: A, C

## SFH4641SHORT
designator D?, comment OSRAM SFH 4641-Z - Infrared Emitters - High Power Infrared 940nm     Wavelength:950nm  Beam Angle:20 degree  Forward Current:70mA  Forward Voltage:1.6V    Variants:  Large:Large pads  Narrow:Narrow pads  Oversize:Oversize pads  Short:Short pads  Short2:Short, wide pads       SparkFun Products:  ZX Distance and Gesture Sensor
PROD_ID: DIO-11994
footprint SFH4641-SHORT
pins: A, C

## SFH4641SHORT2
designator D?, comment OSRAM SFH 4641-Z - Infrared Emitters - High Power Infrared 940nm     Wavelength:950nm  Beam Angle:20 degree  Forward Current:70mA  Forward Voltage:1.6V    Variants:  Large:Large pads  Narrow:Narrow pads  Oversize:Oversize pads  Short:Short pads  Short2:Short, wide pads       SparkFun Products:  ZX Distance and Gesture Sensor
PROD_ID: DIO-11994
footprint SFH4641-SHORT2
pins: A, C

## SMA-B500
designator D?, comment American Opto Plus LED Corp. - SMA-B520LB    5 segment SMD LED Bar Graph Display, Bright Blue   SparkFun Products: MyoWare LED Shield
PROD_ID: DIO-13127
footprint LED_BAR_SMD
pins: 1, 2, 3, 4, 5, 6

## WS2812"
designator U?, comment WS2812 RGB LED w/ WS2811 driver 5x5mm SMD LED with built-in controller IC.  Color: Red/Green/Blue  mC Rating: RGB: 550, 1100, 200 mcd  Current:RGB: 20, 20, 20 mA  Forward Voltage:  RGB: 1.8, 3.0, 3.2 V  Packages:LED-TRICOLOR-5050-IC    SparkFun Products:  LED-SMD RGB (WS2812)
PROD_ID: DIO-11598
footprint LED-TRICOLOR-5050-IC
pins: 1 DO, 2 DI, 3 5 VDD, 6 VSS

## WS2812B
designator D?, comment WS2812B SMD addressable RGB LED 5x5mm SMD LED with built-in controller IC.  Color: Red/Green/Blue  mC Rating: RGB: 390, 660, 180 mcd  Forward Voltage:  RGB: 2.0, 3.0, 3.0 V  Packages:WS2812B    SparkFun Products:  Blynk Board - ESP8266
PROD_ID: DIO-12503
footprint WS2812B
pins: 1 VDD, 2 DO, 3 VSS, 4 DI